# Altium footprint library Connector_FFC-FPC.PcbLib: 1 footprints
Each footprint in its own frame and in the unit in brackets; x right, y up, seen from the top. Pads: shape width x height; smd on the part's side, far side on the other; paste and mask are expansions set on the pad; w line width, h text height; cw(c..) or ccw(c..) is an arc to the next point about the centre after c.
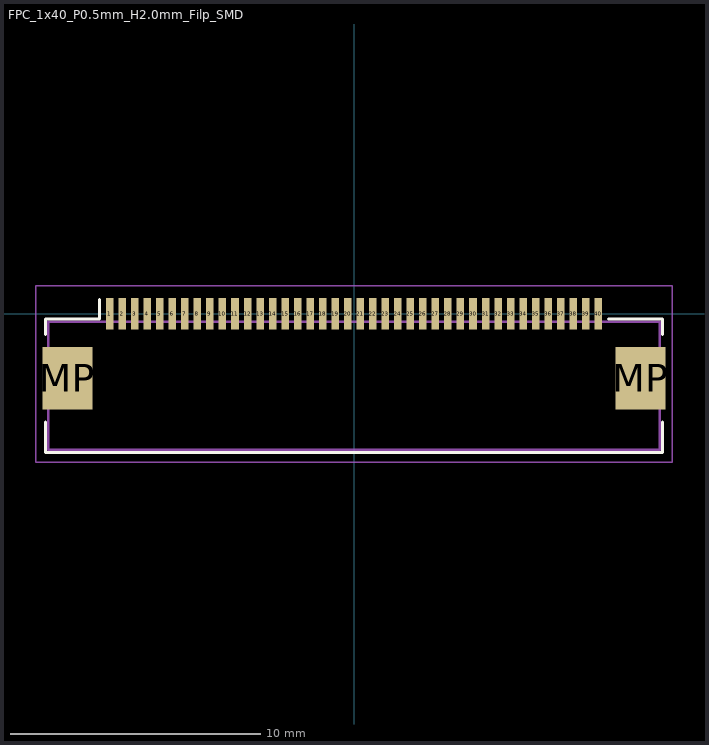
[diagram p0: the footprint, top view; thin cyan lines are the x and y axes]

## FPC_1x40_P0.5mm_H2.0mm_Filp_SMD [mm]
pads (42):
  rect 0.3x1.25 smd: 1(-9.75,0) 2(-9.25,0) 3(-8.75,0) 4(-8.25,0) 5(-7.75,0) 6(-7.25,0) 7(-6.75,0) 8(-6.25,0) 9(-5.75,0) 10(-5.25,0) 11(-4.75,0) 12(-4.25,0) 13(-3.75,0) 14(-3.25,0) 15(-2.75,0) 16(-2.25,0) 17(-1.75,0) 18(-1.25,0) 19(-0.75,0) 20(-0.25,0) 21(0.25,0) 22(0.75,0) 23(1.25,0) 24(1.75,0) 25(2.25,0) 26(2.75,0) 27(3.25,0) 28(3.75,0) 29(4.25,0) 30(4.75,0) 31(5.25,0) 32(5.75,0) 33(6.25,0) 34(6.75,0) 35(7.25,0) 36(7.75,0) 37(8.25,0) 38(8.75,0) 39(9.25,0) 40(9.75,0)
  rect 2x2.5 smd: MP(-11.44,-2.575) MP(11.44,-2.575)
Top Overlay:
  lines w0.12: -12.31,-4.325 -12.31,-5.535 12.31,-5.535 12.31,-4.325 ; -12.31,-0.825 -12.31,-0.195 -10.16,-0.195 -10.16,0.565 ; 10.16,-0.195 12.31,-0.195 12.31,-0.825
Mechanical 13:
  lines w0.1: -12.2,-5.425 -12.2,-0.305 12.2,-0.305 12.2,-5.425 -12.2,-5.425
Mechanical 15:
  lines w0.05: -12.7,-5.925 -12.7,1.125 12.7,1.125 12.7,-5.925 -12.7,-5.925
3D body "FPC_1x40_P0.5mm_H2.0mm_Filp_SMD v1.step": height 2, standoff 0, extent -12.2,-5.425 12.2,0.175